# EAGLE library part 2624-3307 (library con-wago_2624)
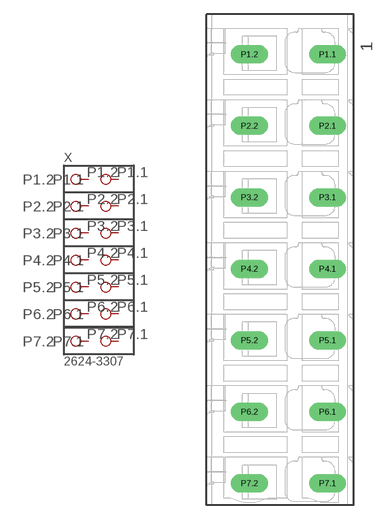
[diagram p44: symbol with the pads of P-2624-3307; footprint P-2624-3307]

Designator prefix X

## 2624-3307  [P-2624-3307]
P1.1  P1.1
P1.2  P1.2
P2.1  P2.1
P2.2  P2.2
P3.1  P3.1
P3.2  P3.2
P4.1  P4.1
P4.2  P4.2
P5.1  P5.1
P5.2  P5.2
P6.1  P6.1
P6.2  P6.2
P7.1  P7.1
P7.2  P7.2

## Footprint P-2624-3307 (pad centres in mm)
drill 1.3 pad 1.93 long: P1.1 0,-2.7; P1.2 -8.2,-2.7; P2.1 0,-10.2; P2.2 -8.2,-10.2; P3.1 0,-17.7; P3.2 -8.2,-17.7; P4.1 0,-25.2; P4.2 -8.2,-25.2; P5.1 0,-32.7; P5.2 -8.2,-32.7; P6.1 0,-40.2; P6.2 -8.2,-40.2; P7.1 0,-47.7; P7.2 -8.2,-47.7